# EAGLE library part UART-USB (library ME433)
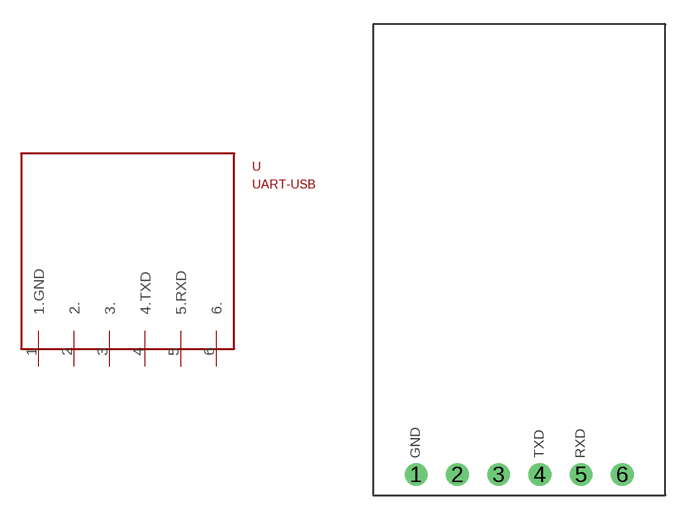
[diagram p8: symbol with the pads of UART-USB; footprint UART-USB]

Designator prefix -

## UART-USB  [UART-USB]
1  1.GND
2  2.
3  3.
4  4.TXD
5  5.RXD
6  6.

## Footprint UART-USB (pad centres in mm)
drill 0.889 pad 0.813: 1 -6.35,1.27; 2 -3.81,1.27; 3 -1.27,1.27; 4 1.27,1.27; 5 3.81,1.27; 6 6.35,1.27